# Altium footprint library Connectors.PcbLib: 20 footprints (part 1 of 2)
Each footprint in its own frame and in the unit in brackets; x right, y up, seen from the top. Pads: shape width x height; smd on the part's side, far side on the other; paste and mask are expansions set on the pad; w line width, h text height; cw(c..) or ccw(c..) is an arc to the next point about the centre after c.
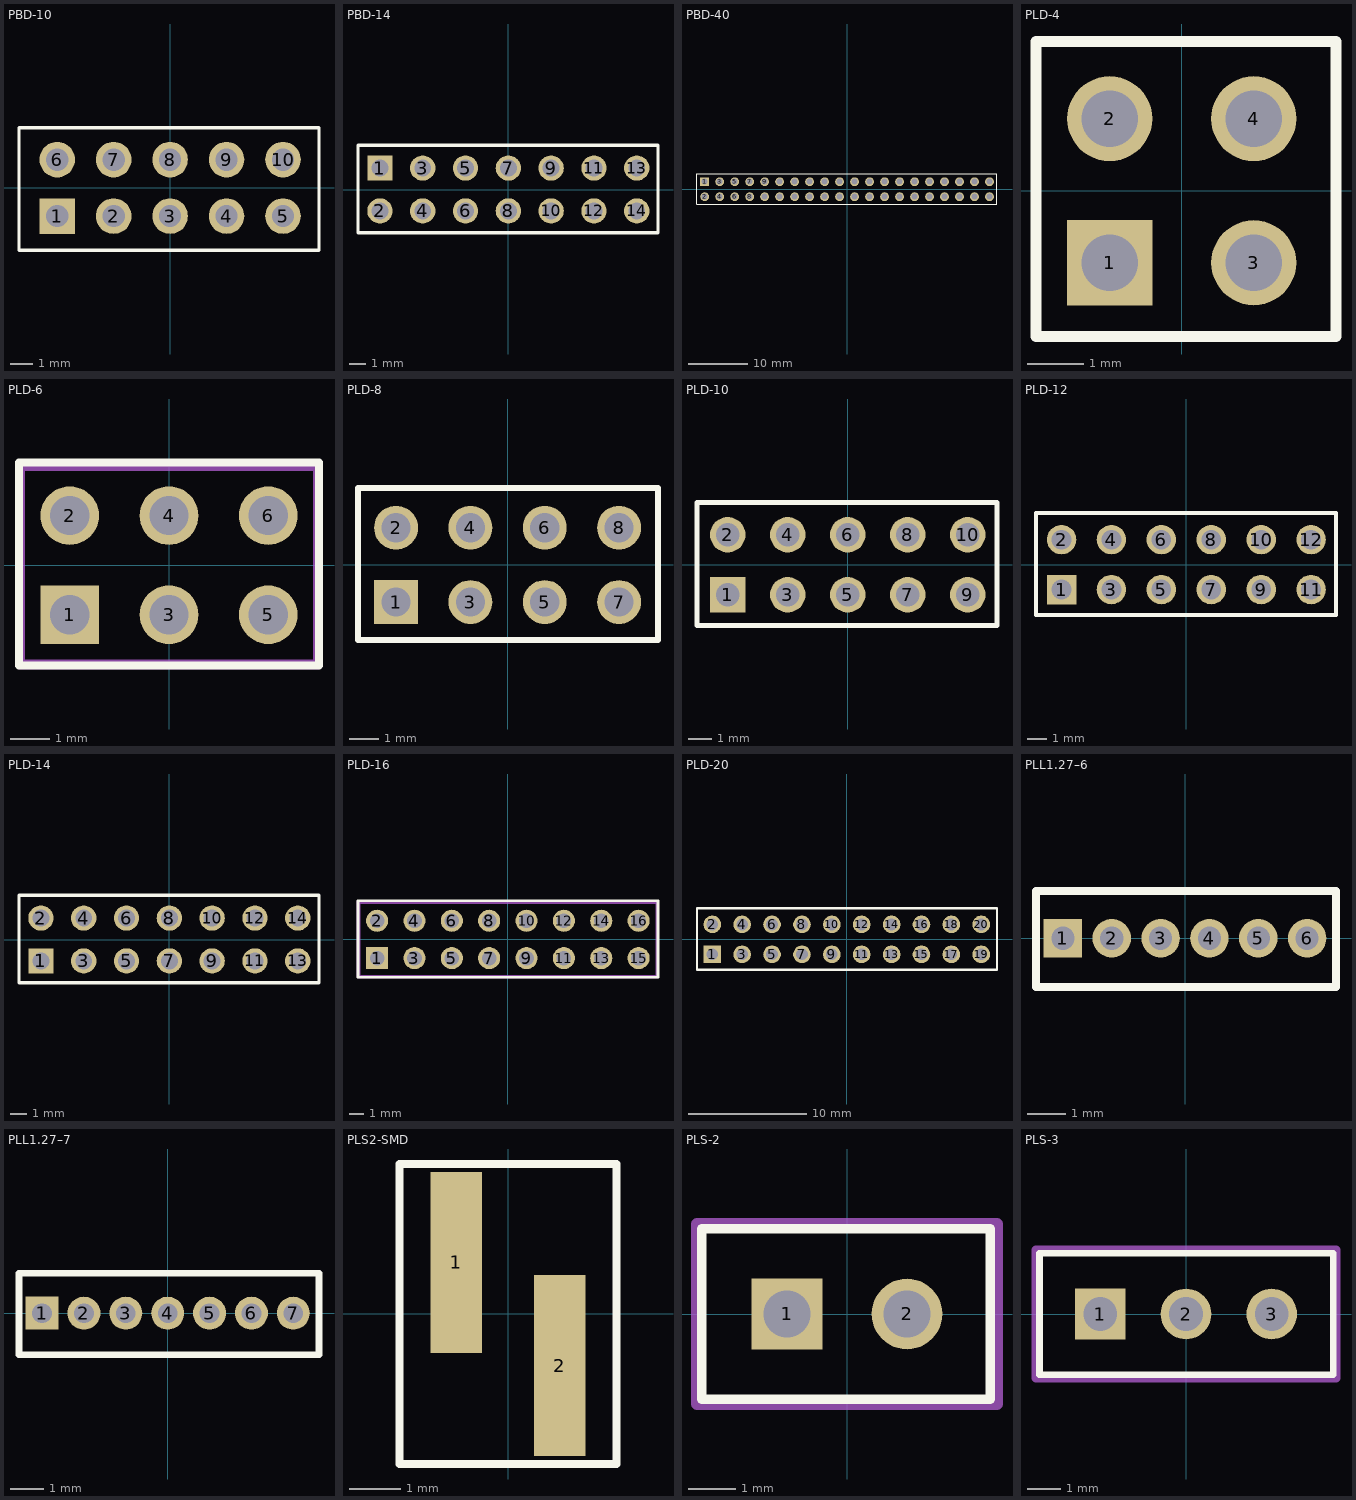
[diagram p0: the footprints below, top view; thin cyan lines are the x and y axes]

## PBD-10 [mm]
pads (10):
  rect 1.6x1.6 / inner round 1.6 / far side rect 1.6x1.6 hole 1 mask+0.05: 1(-5.08,-1.27)
  round 1.6 hole 1 mask+0.05: 2(-2.54,-1.27) 3(0,-1.27) 4(2.54,-1.27) 5(5.08,-1.27) 6(-5.08,1.27) 7(-2.54,1.27) 8(0,1.27) 9(2.54,1.27) 10(5.08,1.27)
Top Overlay:
  lines w0.15: -6.8,-2.8 6.7,-2.8 6.7,2.7 -6.8,2.7 -6.8,-2.8
3D body "Samtec-SSQ-105-01-G-D.step": height 8.5, standoff -2.65, extent -6.654,-2.503 6.554,2.45

## PBD-14 [mm]
pads (14):
  rect 1.5x1.5 hole 1: 1(-7.62,1.27)
  round 1.5 hole 1: 2(-7.62,-1.27) 3(-5.08,1.27) 4(-5.08,-1.27) 5(-2.54,1.27) 6(-2.54,-1.27) 7(0,1.27) 8(0,-1.27) 9(2.54,1.27) 10(2.54,-1.27) 11(5.08,1.27) 12(5.08,-1.27) 13(7.62,1.27) 14(7.62,-1.27)
Top Overlay:
  lines w0.2: -8.92,-2.57 -8.92,-1.27 -8.92,2.63 8.88,2.63 8.88,-2.57 -8.92,-2.57
3D body "female_header_a-bl254-dg-g14d.stp": height 8.5, standoff -3.15, extent -8.919,-2.569 9.111,2.431

## PBD-40 [mm]
pads (40):
  rect 1.5x1.5 hole 1: 1(-24.13,1.27)
  round 1.5 hole 1: 2(-24.13,-1.27) 3(-21.59,1.27) 4(-21.59,-1.27) 5(-19.05,1.27) 6(-19.05,-1.27) 7(-16.51,1.27) 8(-16.51,-1.27) 9(-13.97,1.27) 10(-13.97,-1.27) 11(-11.43,1.27) 12(-11.43,-1.27) 13(-8.89,1.27) 14(-8.89,-1.27) 15(-6.35,1.27) 16(-6.35,-1.27) 17(-3.81,1.27) 18(-3.81,-1.27) 19(-1.27,1.27) 20(-1.27,-1.27) 21(1.27,1.27) 22(1.27,-1.27) 23(3.81,1.27) 24(3.81,-1.27) 25(6.35,1.27) 26(6.35,-1.27) 27(8.89,1.27) 28(8.89,-1.27) 29(11.43,1.27) 30(11.43,-1.27) 31(13.97,1.27) 32(13.97,-1.27) 33(16.51,1.27) 34(16.51,-1.27) 35(19.05,1.27) 36(19.05,-1.27) 37(21.59,1.27) 38(21.59,-1.27) 39(24.13,1.27) 40(24.13,-1.27)
Top Overlay:
  lines w0.2: -25.43,-2.57 -25.43,-1.27 -25.43,2.63 25.4,2.63 25.4,-2.57 -25.43,-2.57
3D body "female_header_a-bl254-dg-g40d.stp": height 8.5, standoff -3.2, extent -25.505,-2.58 25.545,2.42

## PLD-4 [mm]
pads (4):
  rect 1.5x1.5 hole 1: 1(-1.27,-1.27)
  round 1.5 hole 1: 2(-1.27,1.27) 3(1.27,-1.27) 4(1.27,1.27)
Top Overlay:
  lines w0.2: -2.57,-2.57 -2.57,-1.27 -2.57,2.63 2.72,2.63 2.72,-2.57 -2.57,-2.57
3D body "pin_header_awl254-dg-g04d.stp": height 8.5, standoff -3, extent -2.53,-2.57 2.55,2.51

## PLD-6 [mm]
pads (6):
  rect 1.5x1.5 hole 1: 1(-2.54,-1.27)
  round 1.5 hole 1: 2(-2.54,1.27) 3(0,-1.27) 4(0,1.27) 5(2.54,-1.27) 6(2.54,1.27)
Top Overlay:
  lines w0.2: -3.84,-2.57 -3.84,-1.27 -3.84,2.63 3.84,2.63 3.84,-2.57 -3.84,-2.57
Mechanical 29:
  lines w0.254: -3.81,-2.54 3.81,-2.54 3.81,2.54 -3.81,2.54 -3.81,-2.54
  text ".Designator" at -3.175,-0.635 h1.52
3D body "pin_header_awl254-dg-g06d.stp": height 8.5, standoff -3, extent -3.8,-2.54 3.82,2.54

## PLD-8 [mm]
pads (8):
  rect 1.5x1.5 hole 1: 1(-3.81,-1.27)
  round 1.5 hole 1: 2(-3.81,1.27) 3(-1.27,-1.27) 4(-1.27,1.27) 5(1.27,-1.27) 6(1.27,1.27) 7(3.81,-1.27) 8(3.81,1.27)
Top Overlay:
  lines w0.2: -5.11,-2.57 -5.11,-1.27 -5.11,2.63 5.14,2.63 5.14,-2.57 -5.11,-2.57
3D body "pin_header_awl254-dg-g08d.stp": height 8.5, standoff -3, extent -5.06,-2.52 5.1,2.56

## PLD-10 [mm]
pads (10):
  rect 1.5x1.5 hole 1: 1(-5.08,-1.27)
  round 1.5 hole 1: 2(-5.08,1.27) 3(-2.54,-1.27) 4(-2.54,1.27) 5(0,-1.27) 6(0,1.27) 7(2.54,-1.27) 8(2.54,1.27) 9(5.08,-1.27) 10(5.08,1.27)
Top Overlay:
  lines w0.2: -6.38,-2.57 -6.38,-1.27 -6.38,2.63 6.32,2.63 6.32,-2.57 -6.38,-2.57
3D body "PLD-10.stp": height 8.5, standoff -3, extent -6.38,-2.51 6.32,2.57

## PLD-12 [mm]
pads (12):
  rect 1.5x1.5 hole 1: 1(-6.35,-1.27)
  round 1.5 hole 1: 2(-6.35,1.27) 3(-3.81,-1.27) 4(-3.81,1.27) 5(-1.27,-1.27) 6(-1.27,1.27) 7(1.27,-1.27) 8(1.27,1.27) 9(3.81,-1.27) 10(3.81,1.27) 11(6.35,-1.27) 12(6.35,1.27)
Top Overlay:
  lines w0.2: -7.65,-2.57 -7.65,-1.27 -7.65,2.63 7.62,2.63 7.62,-2.57 -7.65,-2.57
3D body "pin_header_awl254-dg-g12d.stp": height 8.5, standoff -3, extent -7.65,-2.57 7.59,2.51

## PLD-14 [mm]
pads (14):
  rect 1.5x1.5 hole 1: 1(-7.62,-1.27)
  round 1.5 hole 1: 2(-7.62,1.27) 3(-5.08,-1.27) 4(-5.08,1.27) 5(-2.54,-1.27) 6(-2.54,1.27) 7(0,-1.27) 8(0,1.27) 9(2.54,-1.27) 10(2.54,1.27) 11(5.08,-1.27) 12(5.08,1.27) 13(7.62,-1.27) 14(7.62,1.27)
Top Overlay:
  lines w0.2: -8.92,-2.57 -8.92,-1.27 -8.92,2.63 8.88,2.63 8.88,-2.57 -8.92,-2.57
3D body "pin_header_awl254-dg-g14d.stp": height 8.5, standoff -3, extent -8.92,-2.57 8.86,2.51

## PLD-16 [mm]
pads (16):
  rect 1.5x1.5 hole 1: 1(-8.89,-1.27)
  round 1.5 hole 1: 2(-8.89,1.27) 3(-6.35,-1.27) 4(-6.35,1.27) 5(-3.81,-1.27) 6(-3.81,1.27) 7(-1.27,-1.27) 8(-1.27,1.27) 9(1.27,-1.27) 10(1.27,1.27) 11(3.81,-1.27) 12(3.81,1.27) 13(6.35,-1.27) 14(6.35,1.27) 15(8.89,-1.27) 16(8.89,1.27)
Top Overlay:
  lines w0.2: -10.19,-2.57 10.21,-2.57 10.21,2.63 -10.19,2.63 -10.19,-1.27 -10.19,-2.57
Mechanical 29:
  lines w0.254: -10.16,-2.54 -10.16,2.54 10.16,2.54 10.16,-2.54 -10.16,-2.54
  text ".Designator" at -6.35,-0.635 h1.52
3D body "pin_header_awl254-dg-g16d.stp": height 8.5, standoff -3, extent -10.154,-2.504 10.166,2.576

## PLD-20 [mm]
pads (20):
  rect 1.5x1.5 hole 1: 1(-11.43,-1.27)
  round 1.5 hole 1: 2(-11.43,1.27) 3(-8.89,-1.27) 4(-8.89,1.27) 5(-6.35,-1.27) 6(-6.35,1.27) 7(-3.81,-1.27) 8(-3.81,1.27) 9(-1.27,-1.27) 10(-1.27,1.27) 11(1.27,-1.27) 12(1.27,1.27) 13(3.81,-1.27) 14(3.81,1.27) 15(6.35,-1.27) 16(6.35,1.27) 17(8.89,-1.27) 18(8.89,1.27) 19(11.43,-1.27) 20(11.43,1.27)
Top Overlay:
  lines w0.2: -12.73,-2.57 12.77,-2.57 12.77,2.63 -12.73,2.63 -12.73,-1.27 -12.73,-2.57
3D body "pin_header_awl254-dg-g20d.stp": height 8.5, standoff -3, extent -12.729,-2.569 12.671,2.511

## PLL1.27–6 [mm]
pads (6):
  rect 1x1 hole 0.6: 1(-3.175,0)
  round 1 hole 0.6: 2(-1.905,0) 3(-0.635,0) 4(0.635,0) 5(1.905,0) 6(3.175,0)
Top Overlay:
  lines w0.2: -3.875,-1.27 3.925,-1.27 3.925,1.23 -3.875,1.23 -3.875,-1.27
3D body "pin_header_a-sl127-eg-g06d.stp": height 5.34, standoff -2.6, extent -3.825,-1.25 3.795,1.25

## PLL1.27–7 [mm]
pads (7):
  rect 1x1 hole 0.6: 1(-3.81,0)
  round 1 hole 0.6: 2(-2.54,0) 3(-1.27,0) 4(0,0) 5(1.27,0) 6(2.54,0) 7(3.81,0)
Top Overlay:
  lines w0.2: -4.51,-1.26 4.59,-1.26 4.59,1.21 -4.51,1.21 -4.51,-1.26
3D body "pin_header_a-sl127-eg-g07d.stp": height 5.34, standoff -2.6, extent -4.41,-1.25 4.48,1.25

## PLS2-SMD [mm]
pads (2):
  rect 1x3.5 smd paste-0.1 mask+0.05: 1(-1,1) 2(1,-1)
Top Overlay:
  lines w0.15: -2.1,-2.9 2.1,-2.9 2.1,2.9 -2.1,2.9 -2.1,-2.9
3D body "PLS-2_SMD_2mm.STEP": height 6, standoff -0.5, extent -2,-2.1 1.95,2.4

## PLS-2 [mm]
pads (2):
  rect 1.5x1.5 hole 1: 1(-1.27,0)
  round 1.5 hole 1: 2(1.27,0)
Top Overlay:
  lines w0.2: -3.07,-1.8 -3.07,1.8 3.03,1.8 3.03,-1.8 -3.07,-1.8
Mechanical 29:
  lines w0.254: -3.175,-1.905 3.175,-1.905 3.175,1.905 -3.175,1.905 -3.175,-1.905
  text ".Designator" at -2.54,-0.635 h1
3D body "User Library-Header1x2.STEP": height 8.49, standoff -2.49, extent -2.54,-1.23 2.54,1.31

## PLS-3 [mm]
pads (3):
  rect 1.5x1.5 hole 1: 1(-2.54,0)
  round 1.5 hole 1: 2(0,0) 3(2.54,0)
Top Overlay:
  lines w0.2: -4.34,-1.8 -4.34,1.8 4.36,1.8 4.36,-1.8 -4.34,-1.8
Mechanical 29:
  lines w0.254: -4.445,-1.905 -4.445,1.905 4.445,1.905 4.445,-1.905 -4.445,-1.905
  text ".Designator" at -3.81,-0.635 h1.52
3D body "pin_header_aw_108_03-t.stp": height 9.4, standoff -3, extent -3.76,-1.2 3.76,1.3